# EAGLE library part MS5803 (library icarus_sensors)
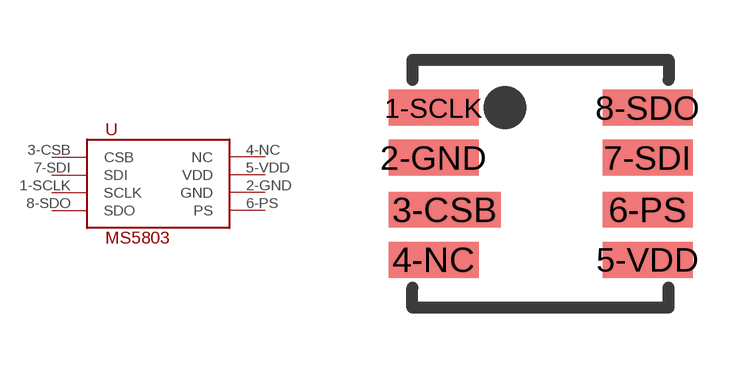
[diagram p11: symbol with the pads of MS5803; footprint MS5803]

Designator prefix -

## MS5803  [MS5803]
1-SCLK  SCLK
2-GND  GND
3-CSB  CSB
4-NC  NC
5-VDD  VDD
6-PS  PS
7-SDI  SDI
8-SDO  SDO

## Footprint MS5803 (pad centres in mm)
smd 2.25 x 0.9: 1-SCLK -2.675,1.9; 2-GND -2.675,0.65; 4-NC -2.675,-1.9; 5-VDD 2.675,-1.9; 6-PS 2.675,-0.65; 7-SDI 2.675,0.65; 8-SDO 2.675,1.9
smd 2.8 x 0.9: 3-CSB -2.4,-0.65